# Altium schematic symbol library SW_DPDT_PNL_MT.SchLib: 1 symbol
Pins are listed as number, name and electrical type; pins without a type are passive.

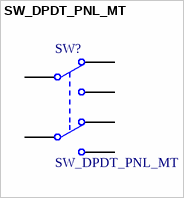
[diagram p0: symbol SW_DPDT_PNL_MT]

## SW_DPDT_PNL_MT
designator SW?
Switch
pins: 1 COMMON1, 2 NC1, 3 NO1, 4 NC2, 5 COMMON2, 6 NO2